# EAGLE library part XSM-106-DV (library Marvin)
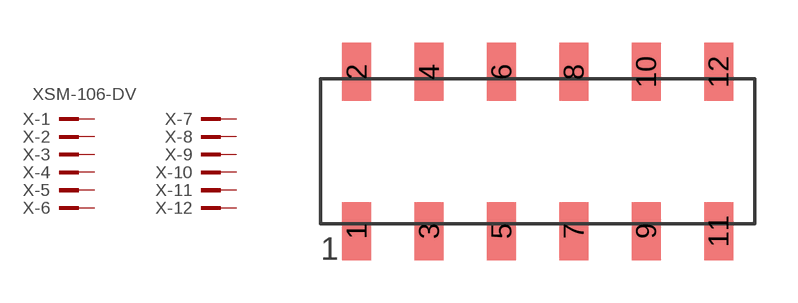
[diagram p19: symbol with the pads of XSM-106-DV; footprint XSM-106-DV]

Designator prefix X; gates -1=PINV -2=PIN-1 -3=PIN-1 -4=PIN-1 -5=PIN-1 -6=PIN-1 -7=PIN-1 -8=PIN-1 -9=PIN-1 -10=PIN-1 -11=PIN-1 -12=PIN-1

## XSM-106-DV  [XSM-106-DV]
1  -1:KL  pas
2  -2:KL  pas
3  -3:KL  pas
4  -4:KL  pas
5  -5:KL  pas
6  -6:KL  pas
7  -7:KL  pas
8  -8:KL  pas
9  -9:KL  pas
10  -10:KL  pas
11  -11:KL  pas
12  -12:KL  pas

## Footprint XSM-106-DV (pad centres in mm)
smd 1.016 x 2.032: 1 -6.35,-2.794; 2 -6.35,2.794; 3 -3.81,-2.794; 4 -3.81,2.794; 5 -1.27,-2.794; 6 -1.27,2.794; 7 1.27,-2.794; 8 1.27,2.794; 9 3.81,-2.794; 10 3.81,2.794; 11 6.35,-2.794; 12 6.35,2.794